# EAGLE library part TP4056 (library we-power)
TPower TP4056 Li-Ion Charger (1A, 4.5-6V input) TP4056X is an improved version (below 1uA leakage)
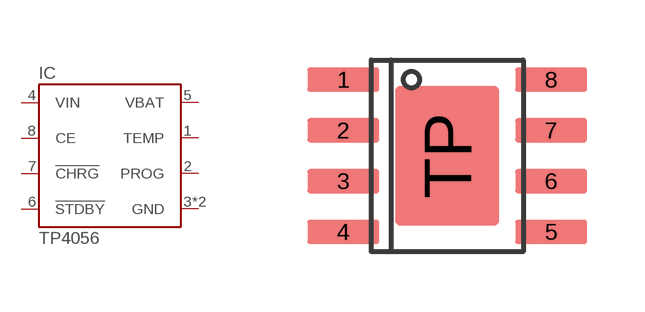
[diagram p7: symbol with the pads of SO08-PAD; footprint SO08-PAD]

Designator prefix IC

## TP4056  [SO08-PAD]
1  TEMP  pas
2  PROG  pas
3  GND  pwr
4  VIN  pwr
5  VBAT  pas
6  !STDBY  out
7  !CHRG  out
8  CE  in
TP  GND  pwr

## Footprint SO08-PAD (pad centres in mm)
smd 1.8 x 0.6: 1 -2.6,1.905; 2 -2.6,0.635; 3 -2.6,-0.635; 4 -2.6,-1.905; 5 2.6,-1.905; 6 2.6,-0.635; 7 2.6,0.635; 8 2.6,1.905
smd 2.6 x 3.5: TP 0,0